# EAGLE library part LM380N-8 (library dviid)
The LM380 is a power audio amplifier for consumer applications.
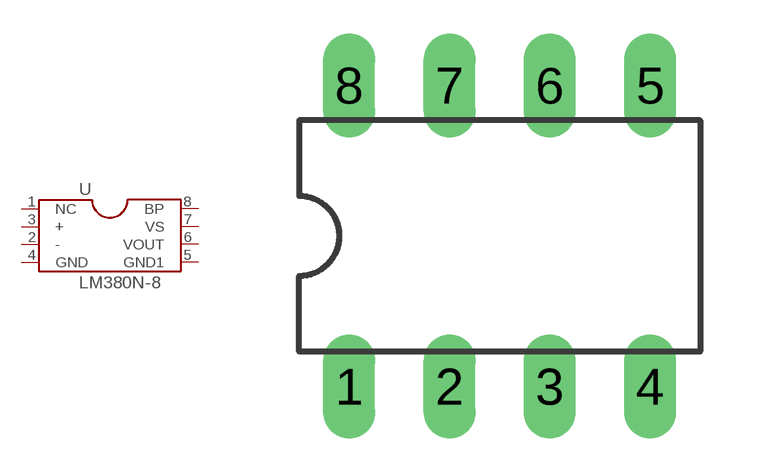
[diagram p13: symbol with the pads of DIL08; footprint DIL08]

Designator prefix -

## LM380N-8  [DIL08]
1  NC  nc
2  -
3  +
4  GND  pwr
5  GND1  pwr
6  VOUT  out
7  VS  pas
8  BP  pas

## Footprint DIL08 (pad centres in mm)
drill 0.813 long: 1 -3.81,-3.81; 2 -1.27,-3.81; 3 1.27,-3.81; 4 3.81,-3.81; 5 3.81,3.81; 6 1.27,3.81; 7 -1.27,3.81; 8 -3.81,3.81